# Altium schematic symbol library SCH - RELAY - OMRON G6DN.SCHLIB: 1 symbol
Pins are listed as number, name and electrical type; pins without a type are passive.

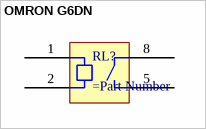
[diagram p0: symbol OMRON G6DN]

## OMRON G6DN
designator RL?
pins: 1 COIL1, 2 COIL2, 5 TERM1, 8 TERM2